# Altium schematic symbol library led 7.SchLib: 1 symbol
Pins are listed as number, name and electrical type; pins without a type are passive.

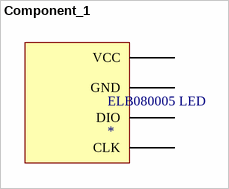
[diagram p0: symbol Component_1]

## Component_1
designator ELB080005 LED
pins: VSS GND (power), VSS VCC (power), VSS DIO, VSS CLK